# Altium integrated library WE-PMI Power Multilayer Inductor.IntLib: 65 symbols
Pins are listed as number, name and electrical type; pins without a type are passive.

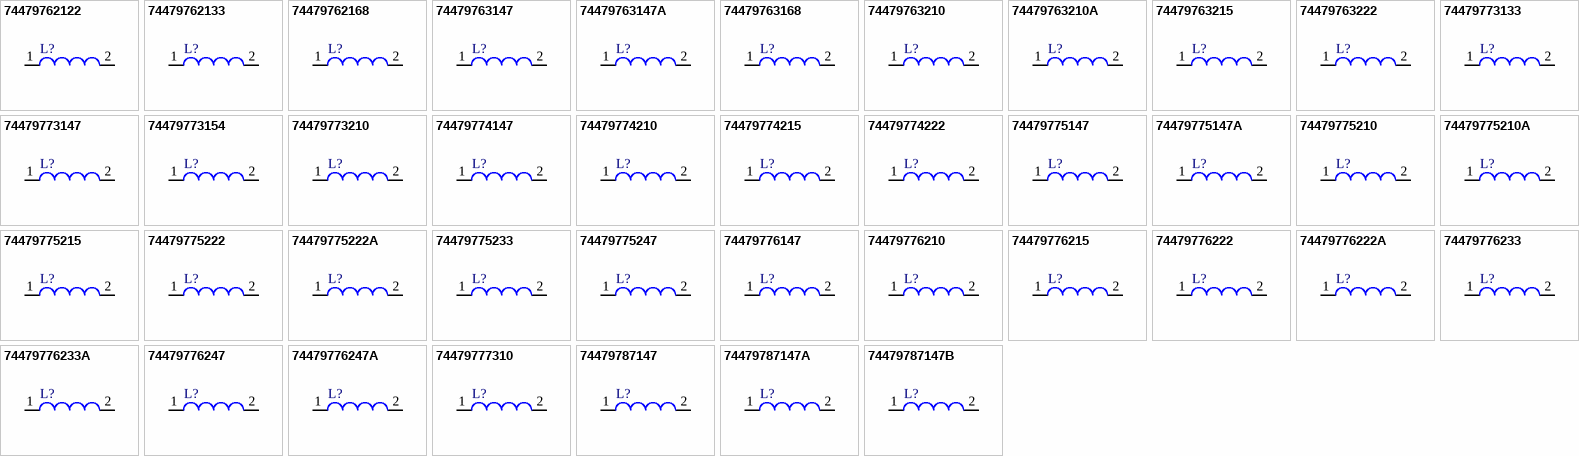
[diagram p0: symbols 74479762122 to 74479787147B]

## 74479762122
designator L?
Power Multilayer Inductor WE-PMI, L=0.22 µH; PartNumber: 74479762122; Inductance: 0.22 µH; PackageReference: SMD 0603-Low Profile; ComponentLink1Description: Manufacturer URL; ComponentLink1URL: http://www.we-online.com; ComponentLink2Description: Datasheet; ComponentLink2URL: http://katalog.we-online.de/kataloge/eisos/media/pdf/74479762122.pdf
footprint SMD 0603-Low Profile (Chip Inductor, 2-Leads, Body 1.6x0.8mm, IPC Medium Density)
pins: 1, 2

## 74479762133
designator L?
Power Multilayer Inductor WE-PMI, L=0.33 µH; PartNumber: 74479762133; Inductance: 0.33 µH; PackageReference: SMD 0603-Low Profile; ComponentLink1Description: Manufacturer URL; ComponentLink1URL: http://www.we-online.com; ComponentLink2Description: Datasheet; ComponentLink2URL: http://katalog.we-online.de/kataloge/eisos/media/pdf/74479762133.pdf
footprint SMD 0603-Low Profile (Chip Inductor, 2-Leads, Body 1.6x0.8mm, IPC Medium Density)
pins: 1, 2

## 74479762168
designator L?
Power Multilayer Inductor WE-PMI, L=0.68 µH; PartNumber: 74479762168; Inductance: 0.68 µH; PackageReference: SMD 0603-Low Profile; ComponentLink1Description: Manufacturer URL; ComponentLink1URL: http://www.we-online.com; ComponentLink2Description: Datasheet; ComponentLink2URL: http://katalog.we-online.de/kataloge/eisos/media/pdf/74479762168.pdf
footprint SMD 0603-Low Profile (Chip Inductor, 2-Leads, Body 1.6x0.8mm, IPC Medium Density)
pins: 1, 2

## 74479763147
designator L?
Power Multilayer Inductor WE-PMI, L=0.47 µH; PartNumber: 74479763147; Inductance: 0.47 µH; PackageReference: SMD 0603_A; ComponentLink1Description: Manufacturer URL; ComponentLink1URL: http://www.we-online.com; ComponentLink2Description: Datasheet; ComponentLink2URL: http://katalog.we-online.de/kataloge/eisos/media/pdf/74479763147.pdf
footprint SMD 0603_A (Molded Inductor, 2-Leads, Body 1,6x0,8mm)
pins: 1, 2

## 74479763147A
designator L?
Power Multilayer Inductor WE-PMI, L=0.47 µH; PartNumber: 74479763147A; Inductance: 0.47 µH; PackageReference: SMD 0603_A; ComponentLink1Description: Manufacturer URL; ComponentLink1URL: http://www.we-online.com; ComponentLink2Description: Datasheet; ComponentLink2URL: http://katalog.we-online.de/kataloge/eisos/media/pdf/74479763147A.pdf
footprint SMD 0603_A (Molded Inductor, 2-Leads, Body 1,6x0,8mm)
pins: 1, 2

## 74479763168
designator L?
Power Multilayer Inductor WE-PMI, L=0.68 µH; PartNumber: 74479763168; Inductance: 0.68 µH; PackageReference: SMD 0603_A; ComponentLink1Description: Manufacturer URL; ComponentLink1URL: http://www.we-online.com; ComponentLink2Description: Datasheet; ComponentLink2URL: http://katalog.we-online.de/kataloge/eisos/media/pdf/74479763168.pdf
footprint SMD 0603_A (Molded Inductor, 2-Leads, Body 1,6x0,8mm)
pins: 1, 2

## 74479763210
designator L?
Power Multilayer Inductor WE-PMI, L=1.00 µH; PartNumber: 74479763210; Inductance: 1.00 µH; PackageReference: SMD 0603_A; ComponentLink1Description: Manufacturer URL; ComponentLink1URL: http://www.we-online.com; ComponentLink2Description: Datasheet; ComponentLink2URL: http://katalog.we-online.de/kataloge/eisos/media/pdf/74479763210.pdf
footprint SMD 0603_A (Molded Inductor, 2-Leads, Body 1,6x0,8mm)
pins: 1, 2

## 74479763210A
designator L?
Power Multilayer Inductor WE-PMI, L=1.00 µH; PartNumber: 74479763210A; Inductance: 1.00 µH; PackageReference: SMD 0603_A; ComponentLink1Description: Manufacturer URL; ComponentLink1URL: http://www.we-online.com; ComponentLink2Description: Datasheet; ComponentLink2URL: http://katalog.we-online.de/kataloge/eisos/media/pdf/74479763210A.pdf
footprint SMD 0603_A (Molded Inductor, 2-Leads, Body 1,6x0,8mm)
pins: 1, 2

## 74479763215
designator L?
Power Multilayer Inductor WE-PMI, L=1.50 µH; PartNumber: 74479763215; Inductance: 1.50 µH; PackageReference: SMD 0603_A; ComponentLink1Description: Manufacturer URL; ComponentLink1URL: http://www.we-online.com; ComponentLink2Description: Datasheet; ComponentLink2URL: http://katalog.we-online.de/kataloge/eisos/media/pdf/74479763215.pdf
footprint SMD 0603_A (Molded Inductor, 2-Leads, Body 1,6x0,8mm)
pins: 1, 2

## 74479763222
designator L?
Power Multilayer Inductor WE-PMI, L=2.20 µH; PartNumber: 74479763222; Inductance: 2.20 µH; PackageReference: SMD 0603_A; ComponentLink1Description: Manufacturer URL; ComponentLink1URL: http://www.we-online.com; ComponentLink2Description: Datasheet; ComponentLink2URL: http://katalog.we-online.de/kataloge/eisos/media/pdf/74479763222.pdf
footprint SMD 0603_A (Molded Inductor, 2-Leads, Body 1,6x0,8mm)
pins: 1, 2

## 74479773133
designator L?
Power Multilayer Inductor WE-PMI, L=0.33µH; PartNumber: 74479773133; Inductance: 0.33µH; PackageReference: SMD 0805-Low profile; ComponentLink1Description: Manufacturer URL; ComponentLink1URL: http://www.we-online.com; ComponentLink2Description: Datasheet; ComponentLink2URL: http://katalog.we-online.de/kataloge/eisos/media/pdf/74479773133.pdf
footprint SMD 0805-Low profile (Chip Inductor, 2-Leads, Body 2.1x1.3mm, IPC Medium Density)
pins: 1, 2

## 74479773147
designator L?
Power Multilayer Inductor WE-PMI, L=0.47µH; PartNumber: 74479773147; Inductance: 0.47µH; PackageReference: SMD 0805-Low profile; ComponentLink1Description: Manufacturer URL; ComponentLink1URL: http://www.we-online.com; ComponentLink2Description: Datasheet; ComponentLink2URL: http://katalog.we-online.de/kataloge/eisos/media/pdf/74479773147.pdf
footprint SMD 0805-Low profile (Chip Inductor, 2-Leads, Body 2.1x1.3mm, IPC Medium Density)
pins: 1, 2

## 74479773154
designator L?
Power Multilayer Inductor WE-PMI, L=0.54µH; PartNumber: 74479773154; Inductance: 0.54µH; PackageReference: SMD 0805-Low profile; ComponentLink1Description: Manufacturer URL; ComponentLink1URL: http://www.we-online.com; ComponentLink2Description: Datasheet; ComponentLink2URL: http://katalog.we-online.de/kataloge/eisos/media/pdf/74479773154.pdf
footprint SMD 0805-Low profile (Chip Inductor, 2-Leads, Body 2.1x1.3mm, IPC Medium Density)
pins: 1, 2

## 74479773210
designator L?
Power Multilayer Inductor WE-PMI, L=1.0µH; PartNumber: 74479773210; Inductance: 1.0µH; PackageReference: SMD 0805-Low profile; ComponentLink1Description: Manufacturer URL; ComponentLink1URL: http://www.we-online.com; ComponentLink2Description: Datasheet; ComponentLink2URL: http://katalog.we-online.de/kataloge/eisos/media/pdf/74479773210.pdf
footprint SMD 0805-Low profile (Chip Inductor, 2-Leads, Body 2.1x1.3mm, IPC Medium Density)
pins: 1, 2

## 74479774147
designator L?
Power Multilayer Inductor WE-PMI, L=0.47 µH; PartNumber: 74479774147; Inductance: 0.47 µH; PackageReference: SMD 0805-Low profile; ComponentLink1Description: Manufacturer URL; ComponentLink1URL: http://www.we-online.com; ComponentLink2Description: Datasheet; ComponentLink2URL: http://katalog.we-online.de/kataloge/eisos/media/pdf/74479774147.pdf
footprint SMD 0805-Low profile (Chip Inductor, 2-Leads, Body 2.1x1.3mm, IPC Medium Density)
pins: 1, 2

## 74479774210
designator L?
Power Multilayer Inductor WE-PMI, L=1.00 µH; PartNumber: 74479774210; Inductance: 1.00 µH; PackageReference: SMD 0805-Low profile; ComponentLink1Description: Manufacturer URL; ComponentLink1URL: http://www.we-online.com; ComponentLink2Description: Datasheet; ComponentLink2URL: http://katalog.we-online.de/kataloge/eisos/media/pdf/74479774210.pdf
footprint SMD 0805-Low profile (Chip Inductor, 2-Leads, Body 2.1x1.3mm, IPC Medium Density)
pins: 1, 2

## 74479774215
designator L?
Power Multilayer Inductor WE-PMI, L=1.5 µH; PartNumber: 74479774215; Inductance: 1.50 µH; PackageReference: SMD 0805-Low profile; ComponentLink1Description: Manufacturer URL; ComponentLink1URL: http://www.we-online.com; ComponentLink2Description: Datasheet; ComponentLink2URL: http://katalog.we-online.de/kataloge/eisos/media/pdf/74479774215.pdf
footprint SMD 0805-Low profile (Chip Inductor, 2-Leads, Body 2.1x1.3mm, IPC Medium Density)
pins: 1, 2

## 74479774222
designator L?
Power Multilayer Inductor WE-PMI, L=2.20 µH; PartNumber: 74479774222; Inductance: 2.20 µH; PackageReference: SMD 0805-Low profile; ComponentLink1Description: Manufacturer URL; ComponentLink1URL: http://www.we-online.com; ComponentLink2Description: Datasheet; ComponentLink2URL: http://katalog.we-online.de/kataloge/eisos/media/pdf/74479774222.pdf
footprint SMD 0805-Low profile (Chip Inductor, 2-Leads, Body 2.1x1.3mm, IPC Medium Density)
pins: 1, 2

## 74479775147
designator L?
Power Multilayer Inductor WE-PMI, L=0.47 µH; PartNumber: 74479775147; Inductance: 0.47 µH; PackageReference: SMD 0805_A; ComponentLink1Description: Manufacturer URL; ComponentLink1URL: http://www.we-online.com; ComponentLink2Description: Datasheet; ComponentLink2URL: http://katalog.we-online.de/kataloge/eisos/media/pdf/74479775147A.pdf
footprint SMD 0805_A (Chip Inductor, 2-Leads, Body 2,0x1,2mm)
pins: 1, 2

## 74479775147A
designator L?
Power Multilayer Inductor WE-PMI, L=0.47 µH; PartNumber: 74479775147A; Inductance: 0.47 µH; PackageReference: SMD 0805_A; ComponentLink1Description: Manufacturer URL; ComponentLink1URL: http://www.we-online.com; ComponentLink2Description: Datasheet; ComponentLink2URL: http://katalog.we-online.de/kataloge/eisos/media/pdf/74479775147A.pdf
footprint SMD 0805_A (Chip Inductor, 2-Leads, Body 2,0x1,2mm)
pins: 1, 2

## 74479775210
designator L?
Power Multilayer Inductor WE-PMI, L=1.00 µH; PartNumber: 74479775210; Inductance: 1.00 µH; PackageReference: SMD 0805_A; ComponentLink1Description: Manufacturer URL; ComponentLink1URL: http://www.we-online.com; ComponentLink2Description: Datasheet; ComponentLink2URL: http://katalog.we-online.de/kataloge/eisos/media/pdf/74479775210A.pdf
footprint SMD 0805_A (Chip Inductor, 2-Leads, Body 2,0x1,2mm)
pins: 1, 2

## 74479775210A
designator L?
Power Multilayer Inductor WE-PMI, L=1.00 µH; PartNumber: 74479775210A; Inductance: 1.00 µH; PackageReference: SMD 0805_A; ComponentLink1Description: Manufacturer URL; ComponentLink1URL: http://www.we-online.com; ComponentLink2Description: Datasheet; ComponentLink2URL: http://katalog.we-online.de/kataloge/eisos/media/pdf/74479775210A.pdf
footprint SMD 0805_A (Chip Inductor, 2-Leads, Body 2,0x1,2mm)
pins: 1, 2

## 74479775215
designator L?
Power Multilayer Inductor WE-PMI, L=1.50 µH; PartNumber: 74479775215; Inductance: 1.50 µH; PackageReference: SMD 0805_A; ComponentLink1Description: Manufacturer URL; ComponentLink1URL: http://www.we-online.com; ComponentLink2Description: Datasheet; ComponentLink2URL: http://katalog.we-online.de/kataloge/eisos/media/pdf/74479775215.pdf
footprint SMD 0805_A (Chip Inductor, 2-Leads, Body 2,0x1,2mm)
pins: 1, 2

## 74479775222
designator L?
Power Multilayer Inductor WE-PMI, L=2.20 µH; PartNumber: 74479775222; Inductance: 2.20 µH; PackageReference: SMD 0805_A; ComponentLink1Description: Manufacturer URL; ComponentLink1URL: http://www.we-online.com; ComponentLink2Description: Datasheet; ComponentLink2URL: http://katalog.we-online.de/kataloge/eisos/media/pdf/74479775222A.pdf
footprint SMD 0805_A (Chip Inductor, 2-Leads, Body 2,0x1,2mm)
pins: 1, 2

## 74479775222A
designator L?
Power Multilayer Inductor WE-PMI, L=2.20 µH; PartNumber: 74479775222A; Inductance: 2.20 µH; PackageReference: SMD 0805_A; ComponentLink1Description: Manufacturer URL; ComponentLink1URL: http://www.we-online.com; ComponentLink2Description: Datasheet; ComponentLink2URL: http://katalog.we-online.de/kataloge/eisos/media/pdf/74479775222A.pdf
footprint SMD 0805_A (Chip Inductor, 2-Leads, Body 2,0x1,2mm)
pins: 1, 2

## 74479775233
designator L?
Power Multilayer Inductor WE-PMI, L=3.30 µH; PartNumber: 74479775233; Inductance: 3.30 µH; PackageReference: SMD 0805_A; ComponentLink1Description: Manufacturer URL; ComponentLink1URL: http://www.we-online.com; ComponentLink2Description: Datasheet; ComponentLink2URL: http://katalog.we-online.de/kataloge/eisos/media/pdf/74479775233.pdf
footprint SMD 0805_A (Chip Inductor, 2-Leads, Body 2,0x1,2mm)
pins: 1, 2

## 74479775247
designator L?
Power Multilayer Inductor WE-PMI, L=4.70 µH; PartNumber: 74479775247; Inductance: 4.70 µH; PackageReference: SMD 0805_A; ComponentLink1Description: Manufacturer URL; ComponentLink1URL: http://www.we-online.com; ComponentLink2Description: Datasheet; ComponentLink2URL: http://katalog.we-online.de/kataloge/eisos/media/pdf/74479777310.pdf
footprint SMD 0805_A (Chip Inductor, 2-Leads, Body 2,0x1,2mm)
pins: 1, 2

## 74479776147
designator L?
Power Multilayer Inductor WE-PMI, L=0.47 µH; PartNumber: 74479776147; Inductance: 0.47 µH; PackageReference: SMD 0806; ComponentLink1Description: Manufacturer URL; ComponentLink1URL: http://www.we-online.com; ComponentLink2Description: Datasheet; ComponentLink2URL: http://katalog.we-online.de/kataloge/eisos/media/pdf/74479776147.pdf
footprint SMD 0806 (Chip Inductor, 2-Leads, Body 2.1x1.6mm, IPC Medium Density)
pins: 1, 2

## 74479776210
designator L?
Power Multilayer Inductor WE-PMI, L=1.00 µH; PartNumber: 74479776210; Inductance: 1.00 µH; PackageReference: SMD 0806; ComponentLink1Description: Manufacturer URL; ComponentLink1URL: http://www.we-online.com; ComponentLink2Description: Datasheet; ComponentLink2URL: http://katalog.we-online.de/kataloge/eisos/media/pdf/74479776210.pdf
footprint SMD 0806 (Chip Inductor, 2-Leads, Body 2.1x1.6mm, IPC Medium Density)
pins: 1, 2

## 74479776215
designator L?
Power Multilayer Inductor WE-PMI, L=1.50 µH; PartNumber: 74479776215; Inductance: 1.50 µH; PackageReference: SMD 0806; ComponentLink1Description: Manufacturer URL; ComponentLink1URL: http://www.we-online.com; ComponentLink2Description: Datasheet; ComponentLink2URL: http://katalog.we-online.de/kataloge/eisos/media/pdf/74479776215.pdf
footprint SMD 0806 (Chip Inductor, 2-Leads, Body 2.1x1.6mm, IPC Medium Density)
pins: 1, 2

## 74479776222
designator L?
Power Multilayer Inductor WE-PMI, L=2.20 µH; PartNumber: 74479776222; Inductance: 2.20 µH; PackageReference: SMD 0806; ComponentLink1Description: Manufacturer URL; ComponentLink1URL: http://www.we-online.com; ComponentLink2Description: Datasheet; ComponentLink2URL: http://katalog.we-online.de/kataloge/eisos/media/pdf/74479776222A.pdf
footprint SMD 0806 (Chip Inductor, 2-Leads, Body 2.1x1.6mm, IPC Medium Density)
pins: 1, 2

## 74479776222A
designator L?
Power Multilayer Inductor WE-PMI, L=2.20 µH; PartNumber: 74479776222A; Inductance: 2.20 µH; PackageReference: SMD 0806; ComponentLink1Description: Manufacturer URL; ComponentLink1URL: http://www.we-online.com; ComponentLink2Description: Datasheet; ComponentLink2URL: http://katalog.we-online.de/kataloge/eisos/media/pdf/74479776222A.pdf
footprint SMD 0806 (Chip Inductor, 2-Leads, Body 2.1x1.6mm, IPC Medium Density)
pins: 1, 2

## 74479776233
designator L?
Power Multilayer Inductor WE-PMI, L=3.30 µH; PartNumber: 74479776233; Inductance: 3.30 µH; PackageReference: SMD 0806; ComponentLink1Description: Manufacturer URL; ComponentLink1URL: http://www.we-online.com; ComponentLink2Description: Datasheet; ComponentLink2URL: http://katalog.we-online.de/kataloge/eisos/media/pdf/74479776233A.pdf
footprint SMD 0806 (Chip Inductor, 2-Leads, Body 2.1x1.6mm, IPC Medium Density)
pins: 1, 2

## 74479776233A
designator L?
Power Multilayer Inductor WE-PMI, L=3.30 µH; PartNumber: 74479776233A; Inductance: 3.30 µH; PackageReference: SMD 0806; ComponentLink1Description: Manufacturer URL; ComponentLink1URL: http://www.we-online.com; ComponentLink2Description: Datasheet; ComponentLink2URL: http://katalog.we-online.de/kataloge/eisos/media/pdf/74479776233A.pdf
footprint SMD 0806 (Chip Inductor, 2-Leads, Body 2.1x1.6mm, IPC Medium Density)
pins: 1, 2

## 74479776247
designator L?
Power Multilayer Inductor WE-PMI, L=4.70 µH; PartNumber: 74479776247; Inductance: 4.70 µH; PackageReference: SMD 0806; ComponentLink1Description: Manufacturer URL; ComponentLink1URL: http://www.we-online.com; ComponentLink2Description: Datasheet; ComponentLink2URL: http://katalog.we-online.de/kataloge/eisos/media/pdf/74479776247A.pdf
footprint SMD 0806 (Chip Inductor, 2-Leads, Body 2.1x1.6mm, IPC Medium Density)
pins: 1, 2

## 74479776247A
designator L?
Power Multilayer Inductor WE-PMI, L=4.70 µH; PartNumber: 74479776247A; Inductance: 4.70 µH; PackageReference: SMD 0806; ComponentLink1Description: Manufacturer URL; ComponentLink1URL: http://www.we-online.com; ComponentLink2Description: Datasheet; ComponentLink2URL: http://katalog.we-online.de/kataloge/eisos/media/pdf/74479776247A.pdf
footprint SMD 0806 (Chip Inductor, 2-Leads, Body 2.1x1.6mm, IPC Medium Density)
pins: 1, 2

## 74479777310
designator L?
Power Multilayer Inductor WE-PMI, L=10.0 µH; PartNumber: 74479777310; Inductance: 10.0 µH; PackageReference: SMD 0805_A; ComponentLink1Description: Manufacturer URL; ComponentLink1URL: http://www.we-online.com; ComponentLink2Description: Datasheet; ComponentLink2URL: http://katalog.we-online.de/kataloge/eisos/media/pdf/74479777310.pdf
footprint SMD 0805_A (Chip Inductor, 2-Leads, Body 2,0x1,2mm)
pins: 1, 2

## 74479787147
designator L?
Power Multilayer Inductor WE-PMI, L = 0.47 µH; PartNumber: 74479787147; Inductance: 0.47 µH; DatasheetVersion: ver 2, Jan-2008; PackageReference: SMD-1008; PackageDescription: Chip Inductor, 2-Leads, Body 2.5 x 2.0 mm; ComponentLink1Description: Manufacturer URL; ComponentLink1URL: http://www.we-online.com; ComponentLink2Description: Datasheet; ComponentLink2URL: http://www.we-online.de/katalog/media/pdf/74479787147.pdf
footprint SMD-1008 (Chip Inductor, 2-Leads, Body 2.5x2.0x1.1 mm)
pins: 1, 2

## 74479787147A
designator L?
Power Multilayer Inductor WE-PMI, L=0.47 µH; PartNumber: 74479787147A; Inductance: 0.47 µH; PackageReference: SMD-1008; ComponentLink1Description: Manufacturer URL; ComponentLink1URL: http://www.we-online.com; ComponentLink2Description: Datasheet; ComponentLink2URL: http://www.we-online.de/katalog/media/pdf/74479787147B.pdf
footprint SMD-1008 (Chip Inductor, 2-Leads, Body 2.5x2.0x1.1 mm)
pins: 1, 2

## 74479787147B
designator L?
Power Multilayer Inductor WE-PMI, L=0.47 µH; PartNumber: 74479787147B; Inductance: 0.47 µH; PackageReference: SMD-1008; ComponentLink1Description: Manufacturer URL; ComponentLink1URL: http://www.we-online.com; ComponentLink2Description: Datasheet; ComponentLink2URL: http://www.we-online.de/katalog/media/pdf/74479787147B.pdf
footprint SMD-1008 (Chip Inductor, 2-Leads, Body 2.5x2.0x1.1 mm)
pins: 1, 2

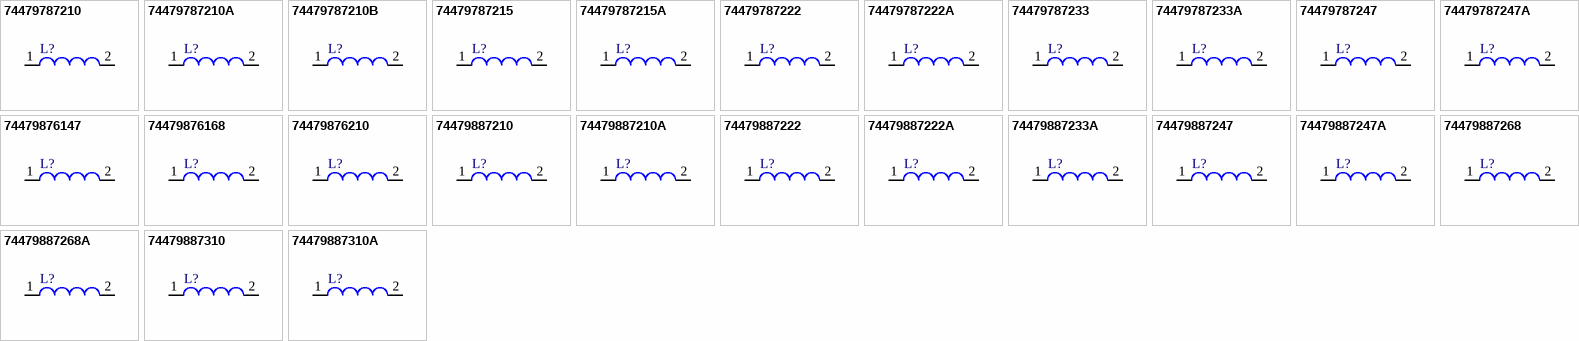
[diagram p1: symbols 74479787210 to 74479887310A]

## 74479787210
designator L?
Power Multilayer Inductor WE-PMI, L = 1.00 µH; PartNumber: 74479787210; Inductance: 1.00 µH; DatasheetVersion: ver 2, Jan-2008; PackageReference: SMD-1008; PackageDescription: Chip Inductor, 2-Leads, Body 2.5 x 2.0 mm; ComponentLink1Description: Manufacturer URL; ComponentLink1URL: http://www.we-online.com; ComponentLink2Description: Datasheet; ComponentLink2URL: http://www.we-online.de/katalog/media/pdf/74479787210.pdf
footprint SMD-1008 (Chip Inductor, 2-Leads, Body 2.5x2.0x1.1 mm)
pins: 1, 2

## 74479787210A
designator L?
Power Multilayer Inductor WE-PMI, L=1.00 µH; PartNumber: 74479787210A; Inductance: 1.00 µH; PackageReference: SMD-1008; ComponentLink1Description: Manufacturer URL; ComponentLink1URL: http://www.we-online.com; ComponentLink2Description: Datasheet; ComponentLink2URL: http://www.we-online.de/katalog/media/pdf/74479787210B.pdf
footprint SMD-1008 (Chip Inductor, 2-Leads, Body 2.5x2.0x1.1 mm)
pins: 1, 2

## 74479787210B
designator L?
Power Multilayer Inductor WE-PMI, L=1.00 µH; PartNumber: 74479787210B; Inductance: 1.00 µH; PackageReference: SMD-1008; ComponentLink1Description: Manufacturer URL; ComponentLink1URL: http://www.we-online.com; ComponentLink2Description: Datasheet; ComponentLink2URL: http://www.we-online.de/katalog/media/pdf/74479787210B.pdf
footprint SMD-1008 (Chip Inductor, 2-Leads, Body 2.5x2.0x1.1 mm)
pins: 1, 2

## 74479787215
designator L?
Power Multilayer Inductor WE-PMI, L=1.50 µH; PartNumber: 74479787215; Inductance: 1.50 µH; PackageReference: SMD-1008; ComponentLink1Description: Manufacturer URL; ComponentLink1URL: http://www.we-online.com; ComponentLink2Description: Datasheet; ComponentLink2URL: http://www.we-online.de/katalog/media/pdf/74479787215A.pdf
footprint SMD-1008 (Chip Inductor, 2-Leads, Body 2.5x2.0x1.1 mm)
pins: 1, 2

## 74479787215A
designator L?
Power Multilayer Inductor WE-PMI, L=1.50 µH; PartNumber: 74479787215A; Inductance: 1.50 µH; PackageReference: SMD-1008; ComponentLink1Description: Manufacturer URL; ComponentLink1URL: http://www.we-online.com; ComponentLink2Description: Datasheet; ComponentLink2URL: http://www.we-online.de/katalog/media/pdf/74479787215A.pdf
footprint SMD-1008 (Chip Inductor, 2-Leads, Body 2.5x2.0x1.1 mm)
pins: 1, 2

## 74479787222
designator L?
Power Multilayer Inductor WE-PMI, L=2.20 µH; PartNumber: 74479787222; Inductance: 2.20 µH; PackageReference: SMD-1008; ComponentLink1Description: Manufacturer URL; ComponentLink1URL: http://www.we-online.com; ComponentLink2Description: Datasheet; ComponentLink2URL: http://www.we-online.de/katalog/media/pdf/74479787222A.pdf
footprint SMD-1008 (Chip Inductor, 2-Leads, Body 2.5x2.0x1.1 mm)
pins: 1, 2

## 74479787222A
designator L?
Power Multilayer Inductor WE-PMI, L=2.20 µH; PartNumber: 74479787222A; Inductance: 2.20 µH; PackageReference: SMD-1008; ComponentLink1Description: Manufacturer URL; ComponentLink1URL: http://www.we-online.com; ComponentLink2Description: Datasheet; ComponentLink2URL: http://www.we-online.de/katalog/media/pdf/74479787222A.pdf
footprint SMD-1008 (Chip Inductor, 2-Leads, Body 2.5x2.0x1.1 mm)
pins: 1, 2

## 74479787233
designator L?
Power Multilayer Inductor WE-PMI, L=3.30 µH; PartNumber: 74479787233; Inductance: 3.30 µH; PackageReference: SMD-1008; ComponentLink1Description: Manufacturer URL; ComponentLink1URL: http://www.we-online.com; ComponentLink2Description: Datasheet; ComponentLink2URL: http://www.we-online.de/katalog/media/pdf/74479787222A.pdf
footprint SMD-1008 (Chip Inductor, 2-Leads, Body 2.5x2.0x1.1 mm)
pins: 1, 2

## 74479787233A
designator L?
Power Multilayer Inductor WE-PMI, L=3.30 µH; PartNumber: 74479787233A; Inductance: 3.30 µH; PackageReference: SMD-1008; ComponentLink1Description: Manufacturer URL; ComponentLink1URL: http://www.we-online.com; ComponentLink2Description: Datasheet; ComponentLink2URL: http://www.we-online.de/katalog/media/pdf/74479787222A.pdf
footprint SMD-1008 (Chip Inductor, 2-Leads, Body 2.5x2.0x1.1 mm)
pins: 1, 2

## 74479787247
designator L?
Power Multilayer Inductor WE-PMI, L=4.70 µH; PartNumber: 74479787247; Inductance: 4.70 µH; PackageReference: SMD-1008; ComponentLink1Description: Manufacturer URL; ComponentLink1URL: http://www.we-online.com; ComponentLink2Description: Datasheet; ComponentLink2URL: http://www.we-online.de/katalog/media/pdf/74479787247A.pdf
footprint SMD-1008 (Chip Inductor, 2-Leads, Body 2.5x2.0x1.1 mm)
pins: 1, 2

## 74479787247A
designator L?
Power Multilayer Inductor WE-PMI, L=4.70 µH; PartNumber: 74479787247A; Inductance: 4.70 µH; PackageReference: SMD-1008; ComponentLink1Description: Manufacturer URL; ComponentLink1URL: http://www.we-online.com; ComponentLink2Description: Datasheet; ComponentLink2URL: http://www.we-online.de/katalog/media/pdf/74479787247A.pdf
footprint SMD-1008 (Chip Inductor, 2-Leads, Body 2.5x2.0x1.1 mm)
pins: 1, 2

## 74479876147
designator L?
Power Multilayer Inductor WE-PMI, L=0.47µH; PartNumber: 74479876147; Inductance: 0.47µH; PackageReference: SMD 0806; ComponentLink1Description: Manufacturer URL; ComponentLink1URL: http://www.we-online.com; ComponentLink2Description: Datasheet; ComponentLink2URL: http://katalog.we-online.de/kataloge/eisos/media/pdf/74479876147.pdf
footprint SMD 0806 (Chip Inductor, 2-Leads, Body 2.1x1.6mm, IPC Medium Density)
pins: 1, 2

## 74479876168
designator L?
Power Multilayer Inductor WE-PMI, L=0.68µH; PartNumber: 74479876168; Inductance: 0.68µH; PackageReference: SMD 0806; ComponentLink1Description: Manufacturer URL; ComponentLink1URL: http://www.we-online.com; ComponentLink2Description: Datasheet; ComponentLink2URL: http://katalog.we-online.de/kataloge/eisos/media/pdf/74479876168.pdf
footprint SMD 0806 (Chip Inductor, 2-Leads, Body 2.1x1.6mm, IPC Medium Density)
pins: 1, 2

## 74479876210
designator L?
Power Multilayer Inductor WE-PMI, L=1.0µH; PartNumber: 74479876210; Inductance: 1.0µH; PackageReference: SMD 0806; ComponentLink1Description: Manufacturer URL; ComponentLink1URL: http://www.we-online.com; ComponentLink2Description: Datasheet; ComponentLink2URL: http://katalog.we-online.de/kataloge/eisos/media/pdf/74479876210.pdf
footprint SMD 0806 (Chip Inductor, 2-Leads, Body 2.1x1.6mm, IPC Medium Density)
pins: 1, 2

## 74479887210
designator L?
Power Multilayer Inductor WE-PMI, L = 1.00 µH; PartNumber: 74479887210; Inductance: 1.00 µH; DatasheetVersion: ver 2, Jun-2009; PackageReference: SMD-1008; PackageDescription: Chip Inductor, 2-Leads, Body 2.5 x 2.0 mm; ComponentLink1Description: Manufacturer URL; ComponentLink1URL: http://www.we-online.com; ComponentLink2Description: Datasheet; ComponentLink2URL: http://www.we-online.de/katalog/media/pdf/74479887210.pdf
footprint SMD-1008 (Chip Inductor, 2-Leads, Body 2.5x2.0x1.1 mm)
pins: 1, 2

## 74479887210A
designator L?
Power Multilayer Inductor WE-PMI, L=1.00 µH; PartNumber: 74479887210A; Inductance: 1.00 µH; PackageReference: SMD-1008; ComponentLink1Description: Manufacturer URL; ComponentLink1URL: http://www.we-online.com; ComponentLink2Description: Datasheet; ComponentLink2URL: http://www.we-online.de/katalog/media/pdf/74479887210.pdf
footprint SMD-1008 (Chip Inductor, 2-Leads, Body 2.5x2.0x1.1 mm)
pins: 1, 2

## 74479887222
designator L?
Power Multilayer Inductor WE-PMI, L = 2.20 µH; PartNumber: 74479887222; Inductance: 2.2 µH; DatasheetVersion: ver 2, Jun-2009; PackageReference: SMD-1008; PackageDescription: Chip Inductor, 2-Leads, Body 2.5 x 2.0 mm; ComponentLink1Description: Manufacturer URL; ComponentLink1URL: http://www.we-online.com; ComponentLink2Description: Datasheet; ComponentLink2URL: http://www.we-online.de/katalog/media/pdf/74479887222.pdf
footprint SMD-1008 (Chip Inductor, 2-Leads, Body 2.5x2.0x1.1 mm)
pins: 1, 2

## 74479887222A
designator L?
Power Multilayer Inductor WE-PMI, L=2.20 µH; PartNumber: 74479887222A; Inductance: 2.20 µH; PackageReference: SMD-1008; ComponentLink1Description: Manufacturer URL; ComponentLink1URL: http://www.we-online.com; ComponentLink2Description: Datasheet; ComponentLink2URL: http://www.we-online.de/katalog/media/pdf/74479887222.pdf
footprint SMD-1008 (Chip Inductor, 2-Leads, Body 2.5x2.0x1.1 mm)
pins: 1, 2

## 74479887233A
designator L?
Power Multilayer Inductor WE-PMI, L=2.20 µH; PartNumber: 74479887233A; Inductance: 2.20 µH; PackageReference: SMD-1008; ComponentLink1Description: Manufacturer URL; ComponentLink1URL: http://www.we-online.com; ComponentLink2Description: Datasheet; ComponentLink2URL: http://www.we-online.de/katalog/media/pdf/74479887222.pdf
footprint SMD-1008 (Chip Inductor, 2-Leads, Body 2.5x2.0x1.1 mm)
pins: 1, 2

## 74479887247
designator L?
Power Multilayer Inductor WE-PMI, L = 4.70 µH; PartNumber: 74479887247; Inductance: 4.70 µH; DatasheetVersion: ver 2, Jun-2009; PackageReference: SMD-1008; PackageDescription: Chip Inductor, 2-Leads, Body 2.5 x 2.0 mm; ComponentLink1Description: Manufacturer URL; ComponentLink1URL: http://www.we-online.com; ComponentLink2Description: Datasheet; ComponentLink2URL: http://www.we-online.de/katalog/media/pdf/74479887247.pdf
footprint SMD-1008 (Chip Inductor, 2-Leads, Body 2.5x2.0x1.1 mm)
pins: 1, 2

## 74479887247A
designator L?
Power Multilayer Inductor WE-PMI, L=4.70 µH; PartNumber: 74479887247A; Inductance: 4.70 µH; PackageReference: SMD-1008; ComponentLink1Description: Manufacturer URL; ComponentLink1URL: http://www.we-online.com; ComponentLink2Description: Datasheet; ComponentLink2URL: http://www.we-online.de/katalog/media/pdf/74479887247.pdf
footprint SMD-1008 (Chip Inductor, 2-Leads, Body 2.5x2.0x1.1 mm)
pins: 1, 2

## 74479887268
designator L?
Power Multilayer Inductor WE-PMI, L = 6.80 µH; PartNumber: 74479887268; Inductance: 6.80 µH; DatasheetVersion: ver 2, Jun-2009; PackageReference: SMD-1008; PackageDescription: Chip Inductor, 2-Leads, Body 2.5 x 2.0 mm; ComponentLink1Description: Manufacturer URL; ComponentLink1URL: http://www.we-online.com; ComponentLink2Description: Datasheet; ComponentLink2URL: http://www.we-online.de/katalog/media/pdf/74479887268.pdf
footprint SMD-1008 (Chip Inductor, 2-Leads, Body 2.5x2.0x1.1 mm)
pins: 1, 2

## 74479887268A
designator L?
Power Multilayer Inductor WE-PMI, L=6.80 µH; PartNumber: 74479887268A; Inductance: 6.80 µH; PackageReference: SMD-1008; ComponentLink1Description: Manufacturer URL; ComponentLink1URL: http://www.we-online.com; ComponentLink2Description: Datasheet; ComponentLink2URL: http://www.we-online.de/katalog/media/pdf/74479887268.pdf
footprint SMD-1008 (Chip Inductor, 2-Leads, Body 2.5x2.0x1.1 mm)
pins: 1, 2

## 74479887310
designator L?
Power Multilayer Inductor WE-PMI, L = 10.00 µH; PartNumber: 74479887310; DatasheetVersion: ver 3, Aug-2009; PackageReference: SMD-1008; PackageDescription: Chip Inductor, 2-Leads, Body 2.5 x 2.0 mm; Inductance: 10.00 µH; ComponentLink1Description: Manufacturer URL; ComponentLink1URL: http://www.we-online.com; ComponentLink2Description: Datasheet; ComponentLink2URL: http://www.we-online.de/katalog/media/pdf/74479887310.pdf
footprint SMD-1008 (Chip Inductor, 2-Leads, Body 2.5x2.0x1.1 mm)
pins: 1, 2

## 74479887310A
designator L?
Power Multilayer Inductor WE-PMI, L=10.0 µH; PartNumber: 74479887310A; Inductance: 10.0 µH; PackageReference: SMD-1008; ComponentLink1Description: Manufacturer URL; ComponentLink1URL: http://www.we-online.com; ComponentLink2Description: Datasheet; ComponentLink2URL: http://www.we-online.de/katalog/media/pdf/74479887310.pdf
footprint SMD-1008 (Chip Inductor, 2-Leads, Body 2.5x2.0x1.1 mm)
pins: 1, 2